# Altium footprint library local_lib.PcbLib: 25 footprints (part 1 of 2)
Each footprint in its own frame and in the unit in brackets; x right, y up, seen from the top. Pads: shape width x height; smd on the part's side, far side on the other; paste and mask are expansions set on the pad; w line width, h text height; cw(c..) or ccw(c..) is an arc to the next point about the centre after c.
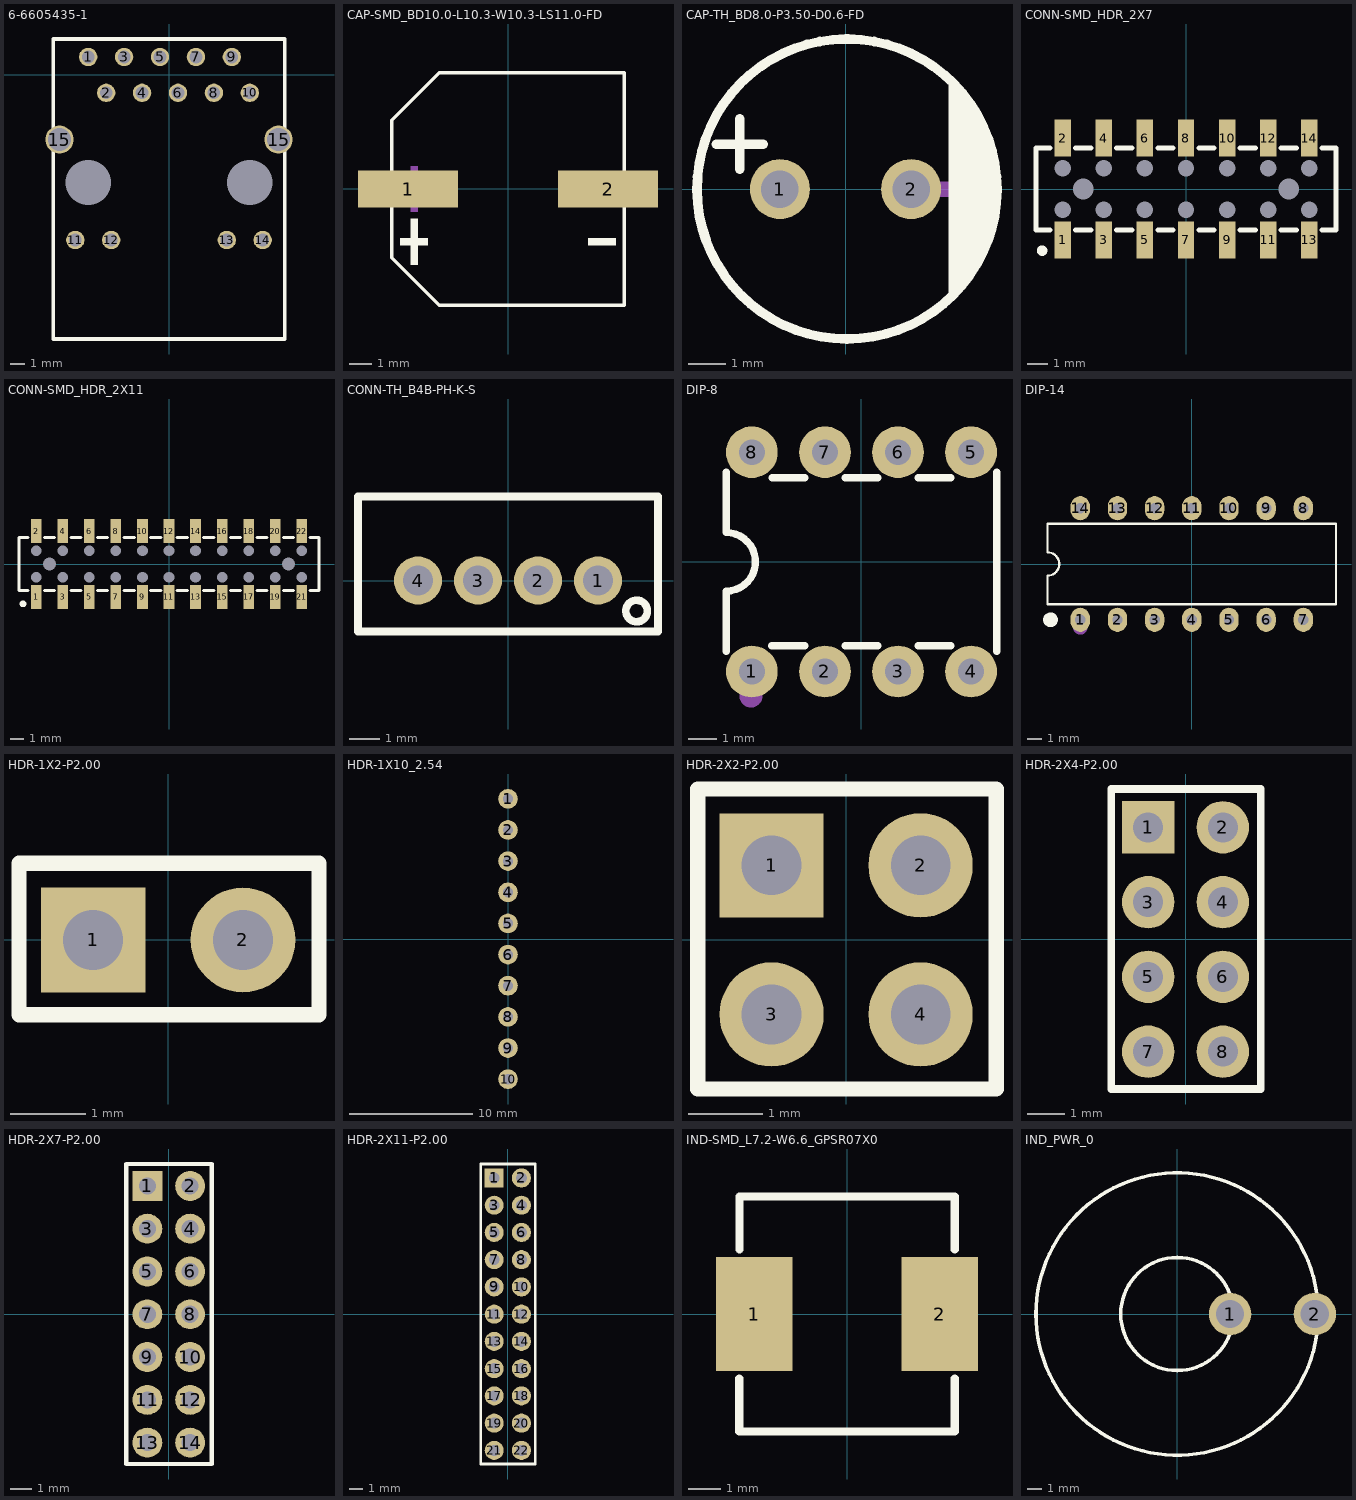
[diagram p0: the footprints below, top view; thin cyan lines are the x and y axes]

## 6-6605435-1 [mm]
pads (18):
  round 1.3 hole 0.9: 1(-5.715,1.27) 2(-4.445,-1.27) 3(-3.175,1.27) 4(-1.905,-1.27) 5(-0.635,1.27) 6(0.635,-1.27) 7(1.905,1.27) 8(3.175,-1.27) 9(4.445,1.27) 10(5.715,-1.27) 11(-6.629,-11.684) 12(-4.089,-11.684) 13(4.089,-11.684) 14(6.629,-11.684)
  round 2 hole 1.6: 15(-7.747,-4.572) 15(7.747,-4.572)
  round 0 hole 3.2: 15(-5.715,-7.62) 15(5.715,-7.62)
Top Overlay:
  lines w0.254: -8.2,-18.684 -8.2,2.54 8.2,2.54 8.2,-18.684 -8.2,-18.684
3D body: height 19, standoff 0, extent -8.2,-18.684 8.2,2.54

## CAP-SMD_BD10.0-L10.3-W10.3-LS11.0-FD [mm]
pads (2):
  rect 4.5x1.65 smd paste+0 mask+0.051: 1(-4.5,0) 2(4.5,0)
Top Overlay:
  region: 4.841,-2.215 4.841,-2.524 3.605,-2.524 3.605,-2.215
  region: -4.841,-2.215 -4.841,-2.524 -3.605,-2.524 -3.605,-2.215
  region: -4.378,-1.339 -4.378,-3.399 -4.069,-3.399 -4.069,-1.339
  lines w0.152: -5.226,-0.852 -5.226,-3.09 -3.09,-5.226 5.226,-5.226 5.226,-0.852 ; -5.226,0.852 -5.226,3.09 -3.09,5.226 5.226,5.226 5.226,0.852
Mechanical 15:
  region: 4.841,0.154 4.841,-0.155 3.605,-0.155 3.605,0.154
  region: -4.841,0.154 -4.841,-0.155 -3.605,-0.155 -3.605,0.154
  region: -4.378,1.03 -4.378,-1.03 -4.069,-1.03 -4.069,1.03
3D body "User Library-cap_10x12.5.STEP": height 12.47, standoff -0.03, extent -5.901,-5.25 5.899,5.25

## CAP-TH_BD8.0-P3.50-D0.6-FD [mm]
pads (2):
  round 1.6 hole 1 paste-2539.97 mask+0.051: 1(-1.75,0) 2(1.75,0)
Top Overlay:
  region: 2.75,-3 2.941,-2.8 3.268,-2.355 3.536,-1.872 3.741,-1.359 3.88,-0.824 3.95,-0.276 3.95,0.276 3.88,0.824 3.741,1.359 3.536,1.872 3.268,2.355 2.941,2.8 2.75,3
  lines w0.254: -3.445,1.2 -2.2,1.2 ; -2.822,0.527 -2.822,1.873 ; 0.003,4 ccw(c0.038,0.001) 0.074,4
Mechanical 15:
  region: 3.5,0.2 2.1,0.2 2.1,-0.2 3.7,-0.2 3.9,-0.2 3.9,0.2
3D body: height 14, standoff 0, extent -4,-4 4,4

## CONN-SMD_HDR_2X7 [mm]
pads (30):
  rect 0.8x1.8 smd paste+0 mask+0.051: 1(-6,-2.475) 2(-6,2.475) 3(-4,-2.475) 4(-4,2.475) 5(-2,-2.475) 6(-2,2.475) 7(0,-2.475) 8(0,2.475) 9(2,-2.475) 10(2,2.475) 11(4,-2.475) 12(4,2.475) 13(6,-2.475) 14(6,2.475)
  round 0 hole 0.8: M4(-6,-1) M4(-6,1) M4(-4,-1) M4(-4,1) M4(-2,-1) M4(-2,1) M4(0,-1) M4(0,1) M4(2,-1) M4(2,1) M4(4,-1) M4(4,1) M4(6,-1) M4(6,1)
  round 0 hole 1 unplated paste-2539.97: ""(-5,0) ""(5,0)
Top Overlay:
  circle w0.254: c-7,-3 r0.127
  lines w0.254: -6.631,-2 -7.3,-2 -7.3,2 -6.631,2 ; -5.369,-2 -4.631,-2 ; -5.369,2 -4.631,2 ; -3.369,-2 -2.631,-2 ; -3.369,2 -2.631,2 ; -1.369,-2 -0.631,-2 ; -1.369,2 -0.631,2 ; 0.631,-2 1.369,-2 ; 0.631,2 1.369,2 ; 2.631,-2 3.369,-2 ; 2.631,2 3.369,2 ; 4.631,-2 5.369,-2 ; 4.631,2 5.369,2 ; 6.631,-2 7.3,-2 7.3,2 6.631,2
Mechanical 15:
  circle w0.4: c-5,0 r0.2
  circle w0.4: c5,0 r0.2
3D body: height 2.5, standoff 0, extent -7.15,-2 7.15,2

## CONN-SMD_HDR_2X11 [mm]
pads (46):
  rect 0.8x1.8 smd paste+0 mask+0.051: 1(-10,-2.475) 2(-10,2.475) 3(-8,-2.475) 4(-8,2.475) 5(-6,-2.475) 6(-6,2.475) 7(-4,-2.475) 8(-4,2.475) 9(-2,-2.475) 10(-2,2.475) 11(0,-2.475) 12(0,2.475) 13(2,-2.475) 14(2,2.475) 15(4,-2.475) 16(4,2.475) 17(6,-2.475) 18(6,2.475) 19(8,-2.475) 20(8,2.475) 21(10,-2.475) 22(10,2.475)
  round 0 hole 0.8: M4(-10,-1) M4(-10,1) M4(-8,-1) M4(-8,1) M4(-6,-1) M4(-6,1) M4(-4,-1) M4(-4,1) M4(-2,-1) M4(-2,1) M4(0,-1) M4(0,1) M4(2,-1) M4(2,1) M4(4,-1) M4(4,1) M4(6,-1) M4(6,1) M4(8,-1) M4(8,1) M4(10,-1) M4(10,1)
  round 0 hole 1 unplated paste-2539.97: ""(-9,0) ""(9,0)
Top Overlay:
  circle w0.254: c-11,-3 r0.127
  lines w0.254: -10.631,-2 -11.3,-2 -11.3,2 -10.631,2 ; -9.369,-2 -8.631,-2 ; -9.369,2 -8.631,2 ; -7.369,-2 -6.631,-2 ; -7.369,2 -6.631,2 ; -5.369,-2 -4.631,-2 ; -5.369,2 -4.631,2 ; -3.369,-2 -2.631,-2 ; -3.369,2 -2.631,2 ; -1.369,-2 -0.631,-2 ; -1.369,2 -0.631,2 ; 0.631,-2 1.369,-2 ; 0.631,2 1.369,2 ; 2.631,-2 3.369,-2 ; 2.631,2 3.369,2 ; 4.631,-2 5.369,-2 ; 4.631,2 5.369,2 ; 6.631,-2 7.369,-2 ; 6.631,2 7.369,2 ; 8.631,-2 9.369,-2 ; 8.631,2 9.369,2 ; 10.631,-2 11.3,-2 11.3,2 10.631,2
Mechanical 15:
  circle w0.4: c9,0 r0.2
  circle w0.4: c-9,0 r0.2
3D body: height 2.5, standoff 0, extent -11.15,-2 11.15,2

## CONN-TH_B4B-PH-K-S [mm]
pads (4):
  round 1.6 hole 1 paste-2539.97 mask+0.051: 1(3,0) 2(1,0) 3(-1,0) 4(-3,0)
Top Overlay:
  circle w0.254: c4.286,-1.016 r0.359
  lines w0.254: -5,-1.7 -5,2.8 5,2.8 5,-1.7 -5,-1.7
3D body "3D_PCB1_2023-11-15.step": height 6, standoff -3, extent -4.95,-1.8 4.95,2.9

## DIP-8 [mm]
pads (8):
  round 1.8 hole 0.9 paste-2539.97 mask+0.051: 1(-3.81,-3.81) 2(-1.27,-3.81) 3(1.27,-3.81) 4(3.81,-3.81) 5(3.81,3.81) 6(1.27,3.81) 7(-1.27,3.81) 8(-3.81,3.81)
Top Overlay:
  lines w0.254: -4.7,-3.113 -4.7,-1.015 ccw(c-4.7,0.001) -4.7,1.017 -4.7,3.113 ; -3.113,-2.92 -1.967,-2.92 ; -3.111,2.922 -1.969,2.922 ; -0.573,-2.92 0.573,-2.92 ; -0.571,2.922 0.571,2.922 ; 1.967,-2.92 3.113,-2.92 ; 1.969,2.922 3.111,2.922 ; 4.7,-3.113 4.7,3.113
Mechanical 15:
  circle w0.4: c-3.84,-4.66 r0.2
3D body "DIP8.STEP": height 3.35, standoff -2.5, extent -4.6,-3.935 4.6,3.935

## DIP-14 [mm]
pads (14):
  oval 1.32x1.65 hole 0.7 paste-2539.97 mask+0.051: 1(-7.62,-3.81) 2(-5.08,-3.81) 3(-2.54,-3.81) 4(0,-3.81) 5(2.54,-3.81) 6(5.08,-3.81) 7(7.62,-3.81) 8(7.62,3.81) 9(5.08,3.81) 10(2.54,3.81) 11(0,3.81) 12(-2.54,3.81) 13(-5.08,3.81) 14(-7.62,3.81)
Top Overlay:
  circle w0.6: c-9.652,-3.81 r0.2
  lines w0.152: -9.851,-2.756 9.851,-2.756 9.851,2.756 -9.851,2.756 -9.851,0.794 cw(c-9.851,0) -9.851,-0.794 -9.851,-2.756
Mechanical 15:
  circle w0.5: c-7.62,-4.318 r0.25
3D body "DIL14.stp": height 4.9, standoff -3.4, extent -9.6,-3.81 9.6,3.81

## HDR-1X2-P2.00 [mm]
pads (2):
  rect 1.4x1.4 hole 0.8 paste-2539.97 mask+0.051: 1(-1,0)
  round 1.4 hole 0.8 paste-2539.97 mask+0.051: 2(1,0)
Top Overlay:
  lines w0.203: -1.991,-1 2.016,-1 2.016,1.025 -1.991,1.025 -1.991,-1
3D body: height 5.9, standoff 0, extent -1.27,-0.29 -0.73,0.29
3D body: height 5.9, standoff 0, extent 0.73,-0.29 1.27,0.29
3D body: height 2, standoff 0, extent -2,-1 2,1

## HDR-1X10_2.54 [mm]
height 1.1
pads (10):
  round 1.6 hole 0.85: 1(0,11.43) 2(0,8.89) 3(0,6.35) 4(0,3.81) 5(0,1.27) 6(0,-1.27) 7(0,-3.81) 8(0,-6.35) 9(0,-8.89) 10(0,-11.43)

## HDR-2X2-P2.00 [mm]
pads (4):
  rect 1.4x1.4 hole 0.8 paste-2539.97 mask+0.051: 1(-1,1)
  round 1.4 hole 0.8 paste-2539.97 mask+0.051: 2(1,1) 3(-1,-1) 4(1,-1)
Top Overlay:
  lines w0.203: -1.991,-2 2.016,-2 2.016,2.025 -1.991,2.025 -1.991,-2
3D body: height 5.9, standoff 0, extent 0.73,-1.29 1.27,-0.71
3D body: height 5.9, standoff 0, extent -1.27,-1.29 -0.73,-0.71
3D body: height 2, standoff 0, extent -2,-2 2,2
3D body: height 5.9, standoff 0, extent 0.73,0.71 1.27,1.29
3D body: height 5.9, standoff 0, extent -1.27,0.71 -0.73,1.29

## HDR-2X4-P2.00 [mm]
pads (8):
  rect 1.4x1.4 hole 0.8 paste-2539.97 mask+0.051: 1(-1,3)
  round 1.4 hole 0.8 paste-2539.97 mask+0.051: 2(1,3) 3(-1,1) 4(1,1) 5(-1,-1) 6(1,-1) 7(-1,-3) 8(1,-3)
Top Overlay:
  lines w0.203: -1.991,-4 -1.991,4.025 2.016,4.025 2.016,-4 -1.991,-4
3D body: height 2, standoff 0, extent -2,-4 2,4
3D body: height 5.9, standoff 0, extent 0.73,0.71 1.27,1.29
3D body: height 5.9, standoff 0, extent -1.27,0.71 -0.73,1.29
3D body: height 5.9, standoff 0, extent 0.73,2.71 1.27,3.29
3D body: height 5.9, standoff 0, extent -1.27,2.71 -0.73,3.29
3D body: height 5.9, standoff 0, extent 0.73,-3.29 1.27,-2.71
3D body: height 5.9, standoff 0, extent -1.27,-3.29 -0.73,-2.71
3D body: height 5.9, standoff 0, extent 0.73,-1.29 1.27,-0.71
3D body: height 5.9, standoff 0, extent -1.27,-1.29 -0.73,-0.71

## HDR-2X7-P2.00 [mm]
pads (14):
  rect 1.4x1.4 hole 0.8 paste-2539.97 mask+0.051: 1(-1,6)
  round 1.4 hole 0.8 paste-2539.97 mask+0.051: 2(1,6) 3(-1,4) 4(1,4) 5(-1,2) 6(1,2) 7(-1,0) 8(1,0) 9(-1,-2) 10(1,-2) 11(-1,-4) 12(1,-4) 13(-1,-6) 14(1,-6)
Top Overlay:
  lines w0.203: -1.991,-7 2.016,-7 2.016,7.025 -1.991,7.025 -1.991,-7
3D body: height 5.9, standoff 0, extent 0.73,-6.29 1.27,-5.71
3D body: height 5.9, standoff 0, extent -1.27,-6.29 -0.73,-5.71
3D body: height 5.9, standoff 0, extent 0.73,-4.29 1.27,-3.71
3D body: height 5.9, standoff 0, extent -1.27,-4.29 -0.73,-3.71
3D body: height 5.9, standoff 0, extent 0.73,-2.29 1.27,-1.71
3D body: height 5.9, standoff 0, extent -1.27,-2.29 -0.73,-1.71
3D body: height 5.9, standoff 0, extent 0.73,-0.29 1.27,0.29
3D body: height 5.9, standoff 0, extent -1.27,-0.29 -0.73,0.29
3D body: height 5.9, standoff 0, extent 0.73,1.71 1.27,2.29
3D body: height 5.9, standoff 0, extent -1.27,1.71 -0.73,2.29
3D body: height 5.9, standoff 0, extent 0.73,3.71 1.27,4.29
3D body: height 5.9, standoff 0, extent -1.27,3.71 -0.73,4.29
3D body: height 5.9, standoff 0, extent 0.73,5.71 1.27,6.29
3D body: height 2, standoff 0, extent -2,-7 2,7
3D body: height 5.9, standoff 0, extent -1.27,5.71 -0.73,6.29

## HDR-2X11-P2.00 [mm]
pads (22):
  rect 1.4x1.4 hole 0.8 paste-2539.97 mask+0.051: 1(-1,10)
  round 1.4 hole 0.8 paste-2539.97 mask+0.051: 2(1,10) 3(-1,8) 4(1,8) 5(-1,6) 6(1,6) 7(-1,4) 8(1,4) 9(-1,2) 10(1,2) 11(-1,0) 12(1,0) 13(-1,-2) 14(1,-2) 15(-1,-4) 16(1,-4) 17(-1,-6) 18(1,-6) 19(-1,-8) 20(1,-8) 21(-1,-10) 22(1,-10)
Top Overlay:
  lines w0.203: -1.991,-11 2.016,-11 2.016,11.025 -1.991,11.025 -1.991,-11
3D body: height 5.9, standoff 0, extent -1.27,9.71 -0.73,10.29
3D body: height 2, standoff 0, extent -2,-11 2,11
3D body: height 5.9, standoff 0, extent 0.73,9.71 1.27,10.29
3D body: height 5.9, standoff 0, extent -1.27,7.71 -0.73,8.29
3D body: height 5.9, standoff 0, extent 0.73,7.71 1.27,8.29
3D body: height 5.9, standoff 0, extent -1.27,5.71 -0.73,6.29
3D body: height 5.9, standoff 0, extent 0.73,5.71 1.27,6.29
3D body: height 5.9, standoff 0, extent -1.27,3.71 -0.73,4.29
3D body: height 5.9, standoff 0, extent 0.73,3.71 1.27,4.29
3D body: height 5.9, standoff 0, extent -1.27,1.71 -0.73,2.29
3D body: height 5.9, standoff 0, extent 0.73,1.71 1.27,2.29
3D body: height 5.9, standoff 0, extent -1.27,-0.29 -0.73,0.29
3D body: height 5.9, standoff 0, extent 0.73,-0.29 1.27,0.29
3D body: height 5.9, standoff 0, extent -1.27,-2.29 -0.73,-1.71
3D body: height 5.9, standoff 0, extent 0.73,-2.29 1.27,-1.71
3D body: height 5.9, standoff 0, extent -1.27,-4.29 -0.73,-3.71
3D body: height 5.9, standoff 0, extent 0.73,-4.29 1.27,-3.71
3D body: height 5.9, standoff 0, extent -1.27,-6.29 -0.73,-5.71
3D body: height 5.9, standoff 0, extent 0.73,-6.29 1.27,-5.71
3D body: height 5.9, standoff 0, extent -1.27,-8.29 -0.73,-7.71
3D body: height 5.9, standoff 0, extent 0.73,-8.29 1.27,-7.71
3D body: height 5.9, standoff 0, extent -1.27,-10.29 -0.73,-9.71
3D body: height 5.9, standoff 0, extent 0.73,-10.29 1.27,-9.71

## IND-SMD_L7.2-W6.6_GPSR07X0 [mm]
pads (2):
  rect 2.35x3.5 smd: 1(-2.85,0) 2(2.85,0)
Top Overlay:
  lines w0.254: -3.3,-1.981 -3.3,-3.6 3.3,-3.6 3.3,-1.981 ; -3.3,1.981 -3.3,3.6 3.3,3.6 3.3,1.981
3D body: height 3, standoff 0, extent -3.3,-3.6 3.3,3.6

## IND_PWR_0 [mm]
pads (2):
  round 3 hole 2: 1(3.75,0) 2(9.75,0)
Top Overlay:
  circle w0.254: c0,0 r10
  circle w0.254: c0,0 r4
3D body: height 9.5, standoff 0, extent -10,-10 10,10